# Altium footprint library PcbLib_IMX7.PcbLib: 32 footprints (part 1 of 2)
Each footprint in its own frame and in the unit in brackets; x right, y up, seen from the top. Pads: shape width x height; smd on the part's side, far side on the other; paste and mask are expansions set on the pad; w line width, h text height; cw(c..) or ccw(c..) is an arc to the next point about the centre after c.
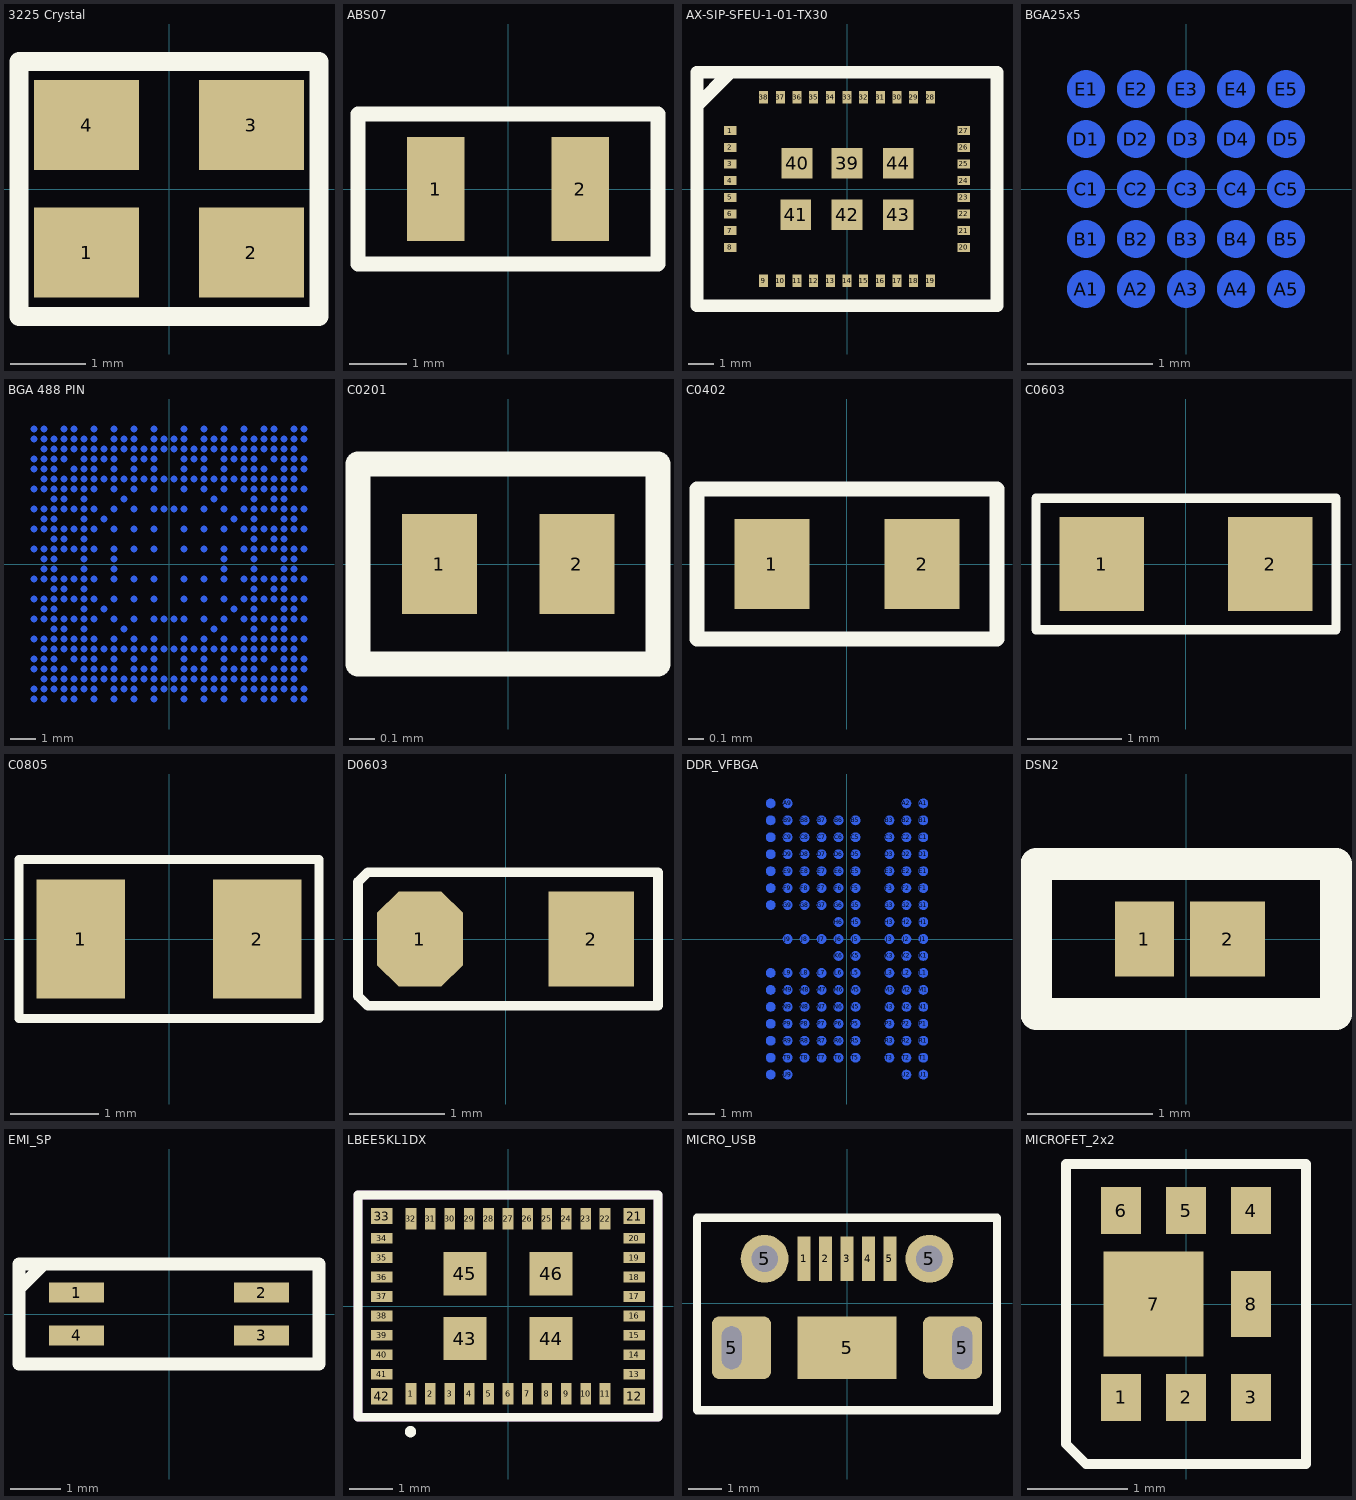
[diagram p0: the footprints below, top view; thin cyan lines are the x and y axes]

## 3225 Crystal [mm]
pads (4):
  rect 1.4x1.2 smd: 1(-1.1,-0.85) 2(1.1,-0.85) 3(1.1,0.85) 4(-1.1,0.85)
Top Overlay:
  lines w0.254: -2,-1.7 -2,1.7 2,1.7 2,-1.7 -2,-1.7
3D body "User Library-User Library-Siward_SX3225.STEP": height 0.81, standoff 0, extent -1.6,-1.3 1.6,1.2

## ABS07 [mm]
pads (2):
  rect 1x1.8 smd: 1(-1.25,0) 2(1.25,0)
Top Overlay:
  lines w0.254: -2.6,-1.3 -2.6,1.3 2.6,1.3 2.6,-1.3 -2.6,-1.3
3D body "User Library-ABS07.STEP": height 0.91, standoff 0, extent -1.61,-0.76 1.61,0.76

## AX-SIP-SFEU-1-01-TX30 [mm]
pads (44):
  rect 0.5x0.35 smd: 1(-4.55,2.275) 2(-4.55,1.625) 3(-4.55,0.975) 4(-4.55,0.325) 5(-4.55,-0.325) 6(-4.55,-0.975) 7(-4.55,-1.625) 8(-4.55,-2.275) 20(4.55,-2.275) 21(4.55,-1.625) 22(4.55,-0.975) 23(4.55,-0.325) 24(4.55,0.325) 25(4.55,0.975) 26(4.55,1.625) 27(4.55,2.275)
  rect 0.35x0.5 smd: 9(-3.25,-3.575) 10(-2.6,-3.575) 11(-1.95,-3.575) 12(-1.3,-3.575) 13(-0.65,-3.575) 14(0,-3.575) 15(0.65,-3.575) 16(1.3,-3.575) 17(1.95,-3.575) 18(2.6,-3.575) 19(3.25,-3.575) 28(3.25,3.575) 29(2.6,3.575) 30(1.95,3.575) 31(1.3,3.575) 32(0.65,3.575) 33(0,3.575) 34(-0.65,3.575) 35(-1.3,3.575) 36(-1.95,3.575) 37(-2.6,3.575) 38(-3.25,3.575)
  rect 1.2x1.2 smd: 39(0,1) 40(-1.95,1) 41(-2,-1) 42(0,-1) 43(2,-1) 44(2,1)
Top Overlay:
  lines w0.5: -5.85,3.25 -4.55,4.55 ; -5.85,-4.55 5.85,-4.55 5.85,4.55 -5.85,4.55 -5.85,-4.55

## BGA25x5 [mm]
pads (25):
  round 0.3 smd far side: A1(-0.8,-0.8) A2(-0.4,-0.8) A3(0,-0.8) A4(0.4,-0.8) A5(0.8,-0.8) B1(-0.8,-0.4) B2(-0.4,-0.4) B3(0,-0.4) B4(0.4,-0.4) B5(0.8,-0.4) C1(-0.8,0) C2(-0.4,0) C3(0,0) C4(0.4,0) C5(0.8,0) D1(-0.8,0.4) D2(-0.4,0.4) D3(0,0.4) D4(0.4,0.4) D5(0.8,0.4) E1(-0.8,0.8) E2(-0.4,0.8) E3(0,0.8) E4(0.4,0.8) E5(0.8,0.8)
Bottom Overlay:
  lines w0.2: -1.2,-1 -1,-1.2 1.2,-1.2 1.2,1.2 -1.2,1.2 -1.2,-1
3D body "User Library-bq25120a.STEP": height -0.37, standoff -0.82, extent -1.234,-1.265 1.234,1.265

## BGA 488 PIN [mm]
pads (488):
  round 0.25 smd far side: A1(5.4,5.4) A2(5,5.4) A4(4.2,5.4) A5(3.8,5.4) A7(3,5.4) A9(2.2,5.4) A11(1.4,5.4) A13(0.6,5.4) A16(-0.6,5.4) A18(-1.4,5.4) A20(-2.2,5.4) A22(-3,5.4) A24(-3.8,5.4) A25(-4.2,5.4) A27(-5,5.4) A28(-5.4,5.4) AA3(4.6,-2.6) AA4(4.2,-2.6) AA6(3.4,-2.6) AA10(1.8,-2.6) AA19(-1.8,-2.6) AA23(-3.4,-2.6) AA25(-4.2,-2.6) AA26(-4.6,-2.6) AB1(5.4,-3) AB2(5,-3) AB3(4.6,-3) AB4(4.2,-3) AB5(3.8,-3) AB6(3.4,-3) AB7(3,-3) AB9(2.2,-3) AB11(1.4,-3) AB13(0.6,-3) AB16(-0.6,-3) AB18(-1.4,-3) AB20(-2.2,-3) AB22(-3,-3) AB23(-3.4,-3) AB24(-3.8,-3) AB25(-4.2,-3) AB26(-4.6,-3) AB27(-5,-3) AB28(-5.4,-3) AC2(5,-3.4) AC3(4.6,-3.4) AC4(4.2,-3.4) AC5(3.8,-3.4) AC6(3.4,-3.4) AC7(3,-3.4) AC8(2.6,-3.4) AC9(2.2,-3.4) AC10(1.8,-3.4) AC11(1.4,-3.4) AC12(1,-3.4) AC13(0.6,-3.4) AC14(0.2,-3.4) AC15(-0.2,-3.4) AC16(-0.6,-3.4) AC17(-1,-3.4) AC18(-1.4,-3.4) AC19(-1.8,-3.4) AC20(-2.2,-3.4) AC21(-2.6,-3.4) AC22(-3,-3.4) AC23(-3.4,-3.4) AC24(-3.8,-3.4) AC25(-4.2,-3.4) AC26(-4.6,-3.4) AC27(-5,-3.4) AD1(5.4,-3.8) AD2(5,-3.8) AD3(4.6,-3.8) AD5(3.8,-3.8) AD6(3.4,-3.8) AD7(3,-3.8) AD9(2.2,-3.8) AD11(1.4,-3.8) AD13(0.6,-3.8) AD16(-0.6,-3.8) AD18(-1.4,-3.8) AD20(-2.2,-3.8) AD22(-3,-3.8) AD23(-3.4,-3.8) AD24(-3.8,-3.8) AD26(-4.6,-3.8) AD27(-5,-3.8) AD28(-5.4,-3.8) AE1(5.4,-4.2) AE2(5,-4.2) AE3(4.6,-4.2) AE4(4.2,-4.2) AE6(3.4,-4.2) AE7(3,-4.2) AE8(2.6,-4.2) AE9(2.2,-4.2) AE11(1.4,-4.2) AE12(1,-4.2) AE13(0.6,-4.2) AE16(-0.6,-4.2) AE17(-1,-4.2) AE18(-1.4,-4.2) AE20(-2.2,-4.2) AE21(-2.6,-4.2) AE22(-3,-4.2) AE23(-3.4,-4.2) AE25(-4.2,-4.2) AE26(-4.6,-4.2) AE27(-5,-4.2) AE28(-5.4,-4.2) AF2(5,-4.6) AF3(4.6,-4.6) AF4(4.2,-4.6) AF5(3.8,-4.6) AF6(3.4,-4.6) AF7(3,-4.6) AF8(2.6,-4.6) AF9(2.2,-4.6) AF10(1.8,-4.6) AF11(1.4,-4.6) AF12(1,-4.6) AF13(0.6,-4.6) AF14(0.2,-4.6) AF15(-0.2,-4.6) AF16(-0.6,-4.6) AF17(-1,-4.6) AF18(-1.4,-4.6) AF19(-1.8,-4.6) AF20(-2.2,-4.6) AF21(-2.6,-4.6) AF22(-3,-4.6) AF23(-3.4,-4.6) AF24(-3.8,-4.6) AF25(-4.2,-4.6) AF26(-4.6,-4.6) AF27(-5,-4.6) AG1(5.4,-5) AG2(5,-5) AG3(4.6,-5) AG4(4.2,-5) AG5(3.8,-5) AG6(3.4,-5) AG7(3,-5) AG9(2.2,-5) AG10(1.8,-5) AG11(1.4,-5) AG13(0.6,-5) AG14(0.2,-5) AG15(-0.2,-5) AG16(-0.6,-5) AG18(-1.4,-5) AG19(-1.8,-5) AG20(-2.2,-5) AG22(-3,-5) AG23(-3.4,-5) AG24(-3.8,-5) AG25(-4.2,-5) AG26(-4.6,-5) AG27(-5,-5) AG28(-5.4,-5) AH1(5.4,-5.4) AH2(5,-5.4) AH4(4.2,-5.4) AH5(3.8,-5.4) AH7(3,-5.4) AH9(2.2,-5.4) AH11(1.4,-5.4) AH13(0.6,-5.4) AH16(-0.6,-5.4) AH18(-1.4,-5.4) AH20(-2.2,-5.4) AH22(-3,-5.4) AH24(-3.8,-5.4) AH25(-4.2,-5.4) AH27(-5,-5.4) AH28(-5.4,-5.4) B1(5.4,5) B2(5,5) B3(4.6,5) B4(4.2,5) B5(3.8,5) B6(3.4,5) B7(3,5) B9(2.2,5) B10(1.8,5) B11(1.4,5) B13(0.6,5) B14(0.2,5) B15(-0.2,5) B16(-0.6,5) B18(-1.4,5) B19(-1.8,5) B20(-2.2,5) B22(-3,5) B23(-3.4,5) B24(-3.8,5) B25(-4.2,5) B26(-4.6,5) B27(-5,5) B28(-5.4,5) C2(5,4.6) C3(4.6,4.6) C4(4.2,4.6) C5(3.8,4.6) C6(3.4,4.6) C7(3,4.6) C8(2.6,4.6) C9(2.2,4.6) C10(1.8,4.6) C11(1.4,4.6) C12(1,4.6) C13(0.6,4.6) C14(0.2,4.6) C15(-0.2,4.6) C16(-0.6,4.6) C17(-1,4.6) C18(-1.4,4.6) C19(-1.8,4.6) C20(-2.2,4.6) C21(-2.6,4.6) C22(-3,4.6) C23(-3.4,4.6) C24(-3.8,4.6) C25(-4.2,4.6) C26(-4.6,4.6) C27(-5,4.6) D1(5.4,4.2) D2(5,4.2) D3(4.6,4.2) D4(4.2,4.2) D6(3.4,4.2) D7(3,4.2) D8(2.6,4.2) D9(2.2,4.2) D11(1.4,4.2) D12(1,4.2) D13(0.6,4.2) D16(-0.6,4.2) D17(-1,4.2) D18(-1.4,4.2) D20(-2.2,4.2) D21(-2.6,4.2) D22(-3,4.2) D23(-3.4,4.2) D25(-4.2,4.2) D26(-4.6,4.2) D27(-5,4.2) D28(-5.4,4.2) E1(5.4,3.8) E2(5,3.8) E3(4.6,3.8) E5(3.8,3.8) E6(3.4,3.8) E7(3,3.8) E9(2.2,3.8) E11(1.4,3.8) E13(0.6,3.8) E16(-0.6,3.8) E18(-1.4,3.8) E20(-2.2,3.8) E22(-3,3.8) E23(-3.4,3.8) E24(-3.8,3.8) E26(-4.6,3.8) E27(-5,3.8) E28(-5.4,3.8) F2(5,3.4) F3(4.6,3.4) F4(4.2,3.4) F5(3.8,3.4) F6(3.4,3.4) F7(3,3.4) F8(2.6,3.4) F9(2.2,3.4) F10(1.8,3.4) F11(1.4,3.4) F12(1,3.4) F13(0.6,3.4) F14(0.2,3.4) F15(-0.2,3.4) F16(-0.6,3.4) F17(-1,3.4) F18(-1.4,3.4) F19(-1.8,3.4) F20(-2.2,3.4) F21(-2.6,3.4) F22(-3,3.4) F23(-3.4,3.4) F24(-3.8,3.4) F25(-4.2,3.4) F26(-4.6,3.4) F27(-5,3.4) G1(5.4,3) G2(5,3) G3(4.6,3) G4(4.2,3) G5(3.8,3) G6(3.4,3) G7(3,3) G9(2.2,3) G11(1.4,3) G13(0.6,3) G16(-0.6,3) G18(-1.4,3) G20(-2.2,3) G22(-3,3) G23(-3.4,3) G24(-3.8,3) G25(-4.2,3) G26(-4.6,3) G27(-5,3) G28(-5.4,3) H3(4.6,2.6) H4(4.2,2.6) H6(3.4,2.6) H10(1.8,2.6) H19(-1.8,2.6) H23(-3.4,2.6) H25(-4.2,2.6) H26(-4.6,2.6) J1(5.4,2.2) J2(5,2.2) J3(4.6,2.2) J4(4.2,2.2) J5(3.8,2.2) J6(3.4,2.2) J7(3,2.2) J9(2.2,2.2) J11(1.4,2.2) J13(0.6,2.2) J14(0.2,2.2) J15(-0.2,2.2) J16(-0.6,2.2) J18(-1.4,2.2) J20(-2.2,2.2) J22(-3,2.2) J23(-3.4,2.2) J24(-3.8,2.2) J25(-4.2,2.2) J26(-4.6,2.2) J27(-5,2.2) J28(-5.4,2.2) K2(5,1.8) K3(4.6,1.8) K6(3.4,1.8) K8(2.6,1.8) K21(-2.6,1.8) K23(-3.4,1.8) K26(-4.6,1.8) K27(-5,1.8) L1(5.4,1.4) L2(5,1.4) L3(4.6,1.4) L4(4.2,1.4) L5(3.8,1.4) L6(3.4,1.4) L7(3,1.4) L9(2.2,1.4) L11(1.4,1.4) L13(0.6,1.4) L16(-0.6,1.4) L18(-1.4,1.4) L20(-2.2,1.4) L22(-3,1.4) L23(-3.4,1.4) L24(-3.8,1.4) L25(-4.2,1.4) L26(-4.6,1.4) L27(-5,1.4) L28(-5.4,1.4) M3(4.6,1) M4(4.2,1) M6(3.4,1) M23(-3.4,1) M25(-4.2,1) M26(-4.6,1) N1(5.4,0.6) N2(5,0.6) N3(4.6,0.6) N4(4.2,0.6) N5(3.8,0.6) N6(3.4,0.6) N7(3,0.6) N9(2.2,0.6) N11(1.4,0.6) N13(0.6,0.6) N16(-0.6,0.6) N18(-1.4,0.6) N20(-2.2,0.6) N22(-3,0.6) N23(-3.4,0.6) N24(-3.8,0.6) N25(-4.2,0.6) N26(-4.6,0.6) N27(-5,0.6) N28(-5.4,0.6) P2(5,0.2) P3(4.6,0.2) P6(3.4,0.2) P9(2.2,0.2) P20(-2.2,0.2) P23(-3.4,0.2) P26(-4.6,0.2) P27(-5,0.2) R2(5,-0.2) R3(4.6,-0.2) R6(3.4,-0.2) R9(2.2,-0.2) R20(-2.2,-0.2) R23(-3.4,-0.2) R26(-4.6,-0.2) R27(-5,-0.2) T1(5.4,-0.6) T2(5,-0.6) T3(4.6,-0.6) T4(4.2,-0.6) T5(3.8,-0.6) T6(3.4,-0.6) T7(3,-0.6) T9(2.2,-0.6) T11(1.4,-0.6) T13(0.6,-0.6) T16(-0.6,-0.6) T18(-1.4,-0.6) T20(-2.2,-0.6) T22(-3,-0.6) T23(-3.4,-0.6) T24(-3.8,-0.6) T25(-4.2,-0.6) T26(-4.6,-0.6) T27(-5,-0.6) T28(-5.4,-0.6) U3(4.6,-1) U4(4.2,-1) U6(3.4,-1) U23(-3.4,-1) U25(-4.2,-1) U26(-4.6,-1) V1(5.4,-1.4) V2(5,-1.4) V3(4.6,-1.4) V4(4.2,-1.4) V5(3.8,-1.4) V6(3.4,-1.4) V7(3,-1.4) V9(2.2,-1.4) V11(1.4,-1.4) V13(0.6,-1.4) V16(-0.6,-1.4) V18(-1.4,-1.4) V20(-2.2,-1.4) V22(-3,-1.4) V23(-3.4,-1.4) V24(-3.8,-1.4) V25(-4.2,-1.4) V26(-4.6,-1.4) V27(-5,-1.4) V28(-5.4,-1.4) W2(5,-1.8) W3(4.6,-1.8) W6(3.4,-1.8) W8(2.6,-1.8) W21(-2.6,-1.8) W23(-3.4,-1.8) W26(-4.6,-1.8) W27(-5,-1.8) Y1(5.4,-2.2) Y2(5,-2.2) Y3(4.6,-2.2) Y4(4.2,-2.2) Y5(3.8,-2.2) Y6(3.4,-2.2) Y7(3,-2.2) Y9(2.2,-2.2) Y11(1.4,-2.2) Y13(0.6,-2.2) Y14(0.2,-2.2) Y15(-0.2,-2.2) Y16(-0.6,-2.2) Y18(-1.4,-2.2) Y20(-2.2,-2.2) Y22(-3,-2.2) Y23(-3.4,-2.2) Y24(-3.8,-2.2) Y25(-4.2,-2.2) Y26(-4.6,-2.2) Y27(-5,-2.2) Y28(-5.4,-2.2)
Bottom Overlay:
  lines w0.2: 5.2,6 5.6,6 6,5.6 ; -6,-6 6,-6 6,6 -6,6 -6,-6

## C0201 [mm]
pads (2):
  rect 0.3x0.4 smd: 1(-0.275,0) 2(0.275,0)
Top Overlay:
  lines w0.1: -0.6,-0.4 0.6,-0.4 0.6,0.4 -0.6,0.4 -0.6,-0.4
3D body "User Library-0201(0603M) Cap.STEP": height 0.31, standoff 0, extent -0.305,-0.152 0.305,0.153

## C0402 [mm]
pads (2):
  rect 0.5x0.6 smd: 1(-0.5,0) 2(0.5,0)
Top Overlay:
  lines w0.1: -1,-0.5 1,-0.5 1,0.5 -1,0.5 -1,-0.5
3D body "User Library-0402(1005M) Cap.STEP": height 0.51, standoff 0, extent -0.508,-0.254 0.508,0.254

## C0603 [mm]
pads (2):
  rect 0.9x1 smd: 1(-0.9,0) 2(0.9,0)
Top Overlay:
  lines w0.1: -1.6,-0.7 -1.6,0.7 1.6,0.7 1.6,-0.7 -1.6,-0.7
3D body "User Library-0603(1608M) Cap.STEP": height 0.79, standoff 0, extent -1,-0.394 1,0.394

## C0805 [mm]
pads (2):
  rect 1x1.35 smd: 1(-1,0) 2(1,0)
Top Overlay:
  lines w0.1: -1.7,-0.9 1.7,-0.9 1.7,0.9 -1.7,0.9 -1.7,-0.9
3D body "User Library-0805(2012M) Cap.STEP": height 0.79, standoff 0, extent -1.254,-0.622 1.254,0.622

## D0603 [mm]
pads (2):
  oct 0.9x1 smd: 1(-0.9,0)
  rect 0.9x1 smd: 2(0.9,0)
Top Overlay:
  lines w0.1: -1.45,-0.7 1.6,-0.7 1.6,0.7 -1.45,0.7 -1.55,0.6 -1.55,-0.6 -1.45,-0.7 ; -1.45,-0.7 -1.45,-0.7
3D body "User Library-LED SMD0603.STEP": height 0.68, standoff 0, extent -0.825,-0.35 0.825,0.375

## DDR_VFBGA [mm]
pads (134):
  round 0.36 smd far side: A1(2.925,5.2) A2(2.275,5.2) A9(-2.275,5.2) A10(-2.925,5.2) B1(2.925,4.55) B2(2.275,4.55) B3(1.625,4.55) B5(0.325,4.55) B6(-0.325,4.55) B7(-0.975,4.55) B8(-1.625,4.55) B9(-2.275,4.55) B10(-2.925,4.55) C1(2.925,3.9) C2(2.275,3.9) C3(1.625,3.9) C5(0.325,3.9) C6(-0.325,3.9) C7(-0.975,3.9) C8(-1.625,3.9) C9(-2.275,3.9) C10(-2.925,3.9) D1(2.925,3.25) D2(2.275,3.25) D3(1.625,3.25) D5(0.325,3.25) D6(-0.325,3.25) D7(-0.975,3.25) D8(-1.625,3.25) D9(-2.275,3.25) D10(-2.925,3.25) E1(2.925,2.6) E2(2.275,2.6) E3(1.625,2.6) E5(0.325,2.6) E6(-0.325,2.6) E7(-0.975,2.6) E8(-1.625,2.6) E9(-2.275,2.6) E10(-2.925,2.6) F1(2.925,1.95) F2(2.275,1.95) F3(1.625,1.95) F5(0.325,1.95) F6(-0.325,1.95) F7(-0.975,1.95) F8(-1.625,1.95) F9(-2.275,1.95) F10(-2.925,1.95) G1(2.925,1.3) G2(2.275,1.3) G3(1.625,1.3) G5(0.325,1.3) G6(-0.325,1.3) G7(-0.975,1.3) G8(-1.625,1.3) G9(-2.275,1.3) G10(-2.925,1.3) H1(2.925,0.65) H2(2.275,0.65) H3(1.625,0.65) H5(0.325,0.65) H6(-0.325,0.65) J1(2.925,0) J2(2.275,0) J3(1.625,0) J5(0.325,0) J6(-0.325,0) J7(-0.975,0) J8(-1.625,0) J9(-2.275,0) K1(2.925,-0.65) K2(2.275,-0.65) K3(1.625,-0.65) K5(0.325,-0.65) K6(-0.325,-0.65) L1(2.925,-1.3) L2(2.275,-1.3) L3(1.625,-1.3) L5(0.325,-1.3) L6(-0.325,-1.3) L7(-0.975,-1.3) L8(-1.625,-1.3) L9(-2.275,-1.3) L10(-2.925,-1.3) M1(2.925,-1.95) M2(2.275,-1.95) M3(1.625,-1.95) M5(0.325,-1.95) M6(-0.325,-1.95) M7(-0.975,-1.95) M8(-1.625,-1.95) M9(-2.275,-1.95) M10(-2.925,-1.95) N1(2.925,-2.6) N2(2.275,-2.6) N3(1.625,-2.6) N5(0.325,-2.6) N6(-0.325,-2.6) N7(-0.975,-2.6) N8(-1.625,-2.6) N9(-2.275,-2.6) N10(-2.925,-2.6) P1(2.925,-3.25) P2(2.275,-3.25) P3(1.625,-3.25) P5(0.325,-3.25) P6(-0.325,-3.25) P7(-0.975,-3.25) P8(-1.625,-3.25) P9(-2.275,-3.25) P10(-2.925,-3.25) R1(2.925,-3.9) R2(2.275,-3.9) R3(1.625,-3.9) R5(0.325,-3.9) R6(-0.325,-3.9) R7(-0.975,-3.9) R8(-1.625,-3.9) R9(-2.275,-3.9) R10(-2.925,-3.9) T1(2.925,-4.55) T2(2.275,-4.55) T3(1.625,-4.55) T5(0.325,-4.55) T6(-0.325,-4.55) T7(-0.975,-4.55) T8(-1.625,-4.55) T9(-2.275,-4.55) T10(-2.925,-4.55) U1(2.925,-5.2) U2(2.275,-5.2) U9(-2.275,-5.2) U10(-2.925,-5.2)
Bottom Overlay:
  lines w0.1: 4.25,5.75 5,5 ; -5,-5.75 -5,5.75 5,5.75 5,-5.75 -5,-5.75

## DSN2 [mm]
pads (2):
  rect 0.47x0.6 smd: 1(-0.332,0)
  rect 0.6x0.6 smd: 2(0.333,0)
Top Overlay:
  lines w0.254: -1.2,-0.6 1.2,-0.6 1.2,0.6 0,0.6 -1.2,0.6 -1.2,-0.6

## EMI_SP [mm]
pads (4):
  rect 1.1x0.4 smd: 1(-1.85,0.425) 2(1.85,0.425) 3(1.85,-0.425) 4(-1.85,-0.425)
Top Overlay:
  lines w0.254: -3,0.5 -2.5,1 ; -2.5,1 -2.5,1 ; -3,-1 -3,1 3,1 3,-1 -3,-1

## LBEE5KL1DX [mm]
pads (46):
  rect 0.25x0.5 smd: 1(-2.25,-2.025) 2(-1.8,-2.025) 3(-1.35,-2.025) 4(-0.9,-2.025) 5(-0.45,-2.025) 6(0,-2.025) 7(0.45,-2.025) 8(0.9,-2.025) 9(1.35,-2.025) 10(1.8,-2.025) 11(2.25,-2.025) 22(2.25,2.025) 23(1.8,2.025) 24(1.35,2.025) 25(0.9,2.025) 26(0.45,2.025) 27(0,2.025) 28(-0.45,2.025) 29(-0.9,2.025) 30(-1.35,2.025) 31(-1.8,2.025) 32(-2.25,2.025)
  rect 0.5x0.375 smd: 12(2.925,-2.087) 21(2.925,2.087) 33(-2.925,2.087) 42(-2.925,-2.087)
  rect 0.5x0.25 smd: 13(2.925,-1.575) 14(2.925,-1.125) 15(2.925,-0.675) 16(2.925,-0.225) 17(2.925,0.225) 18(2.925,0.675) 19(2.925,1.125) 20(2.925,1.575) 34(-2.925,1.575) 35(-2.925,1.125) 36(-2.925,0.675) 37(-2.925,0.225) 38(-2.925,-0.225) 39(-2.925,-0.675) 40(-2.925,-1.125) 41(-2.925,-1.575)
  rect 1x1 smd: 43(-1,-0.75) 44(1,-0.75) 45(-1,0.75) 46(1,0.75)
Top Overlay:
  circle w0.2: c-2.259,-2.906 r0.031
  lines w0.2: -3.475,-2.575 -3.475,2.575 3.475,2.575 3.475,-2.575 -3.475,-2.575
Mechanical 15:
  lines w0.2: -3.475,-2.575 3.475,-2.575 3.475,2.575 -3.475,2.575 -3.475,-2.575

## MICRO_USB [mm]
pads (10):
  rect 0.4x1.35 smd: 1(-1.3,1.35) 2(-0.65,1.35) 3(0,1.35) 4(0.65,1.35) 5(1.3,1.35)
  rrect25% 1.8x1.9 hole 0.6 slot 1.3 at 90 deg unplated copper offset 0.3,0: 5(-3.5,-1.35)
  round 1.45 hole 0.8: 5(-2.5,1.35) 5(2.5,1.35)
  rect 3x1.9 smd: 5(0,-1.35)
  rrect25% 1.8x1.9 hole 0.6 slot 1.3 at 90 deg unplated copper offset -0.3,0: 5(3.5,-1.35)
Top Overlay:
  lines w0.254: -4.55,-3.25 -4.55,2.6 4.55,2.6 4.55,-3.25 -4.55,-3.25

## MICROFET_2x2 [mm]
pads (8):
  rect 0.4x0.47 smd: 1(-0.65,-0.935) 2(0,-0.935) 3(0.65,-0.935) 4(0.65,0.935) 5(0,0.935) 6(-0.65,0.935)
  rect 1x1.05 smd: 7(-0.325,0)
  rect 0.4x0.66 smd: 8(0.65,0)
Top Overlay:
  lines w0.1: -1.2,-1.4 -1.2,1.4 1.2,1.4 1.2,-1.6 -1,-1.6 -1.2,-1.4
3D body "User Library-MicroFET-6(2_0).STEP": height 0.8, standoff 0, extent -1,-1 1,1